# Altium footprint library Logo.PcbLib: 4 footprints
Each footprint in its own frame and in the unit in brackets; x right, y up, seen from the top. Pads: shape width x height; smd on the part's side, far side on the other; paste and mask are expansions set on the pad; w line width, h text height; cw(c..) or ccw(c..) is an arc to the next point about the centre after c.
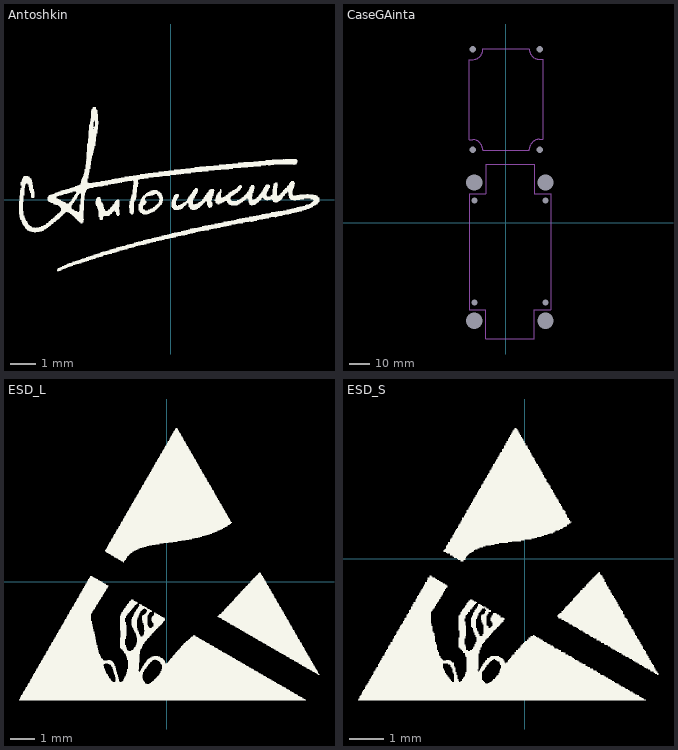
[diagram p0: the footprints below, top view; thin cyan lines are the x and y axes]

## Antoshkin [mm]
Top Overlay:
  drawing of 1019 lines, arcs and shapes, not listed

## CaseGAinta [mm]
pads (12):
  round 1.5 hole 3.2: 2(-16.328,35.848) 2(-16.328,85.348) 2(16.672,35.848) 2(16.672,85.348)
  round 1.5 hole 8: 2(-15.428,-48.177) 2(-15.428,19.823) 2(19.572,-48.177) 2(19.572,19.823)
  round 1.5 hole 3: 2(-15.428,-39.177) 2(-15.428,10.823) 2(19.572,10.823) 2(19.572,-39.177)
Mechanical 1:
  lines w0.254: -17.828,80.223 -17.828,40.848 -16.328,40.848 ; -17.753,80.223 -16.253,80.223 ; -11.253,85.473 -11.253,85.223 cw(c-16.253,85.223) -16.253,80.223 ; -11.253,85.598 11.622,85.598 ; 11.622,85.573 11.622,85.323 ccw(c16.622,85.323) 16.622,80.323 ; 18.097,41.023 16.597,41.023 ; 18.172,41.023 18.172,80.273 18.122,80.323 16.622,80.323 ; 22.072,-42.677 14.072,-42.677 14.072,-57.177 -9.928,-57.177 -9.928,-42.677 -17.928,-42.677 -17.928,14.323 -9.928,14.323 -9.928,28.823 14.072,28.823 14.072,14.323 22.072,14.323 ; 22.197,-42.677 22.197,14.323 ; -16.328,40.848 cw(c-16.328,35.848) -11.328,35.848 -11.328,35.598 11.597,35.598 11.597,36.023 cw(c16.597,36.023) 16.597,41.023 ; -16.328,40.848 -16.328,40.848 ; -16.328,40.848 -16.328,40.848 ; -16.253,80.223 -16.253,80.223 ; -16.253,80.223 -16.253,80.223 ; 16.597,41.023 16.597,41.023 ; 16.597,41.023 16.597,41.023 ; 16.622,80.323 16.622,80.323 ; 16.622,80.323 16.622,80.323
Mechanical 13:
  text "G431" at 20.997,-14.927 h1.52
  text "G1906" at 15.272,57.773 h1.52

## ESD_L [mm]
Top Overlay:
  drawing of 1006 lines, arcs and shapes, not listed

## ESD_S [mm]
Top Overlay:
  drawing of 703 lines, arcs and shapes, not listed